# Altium schematic symbol library semtech.SchLib: 1 symbol
Pins are listed as number, name and electrical type; pins without a type are passive.

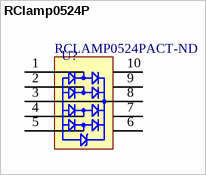
[diagram p0: symbol RClamp0524P]

## RClamp0524P
designator U?  Supplier Part Number 1: RCLAMP0524PACT-ND  (hidden comment: *)
Ultra low capacitance TVS arrays; Supplier 1: Digi-Key
footprint SLP2510P8; pin to pad 8>3
pins: 1, 2, 3, 4, 5, 6, 7, 8, 9, 10